# EAGLE library part USB (library usevolt)
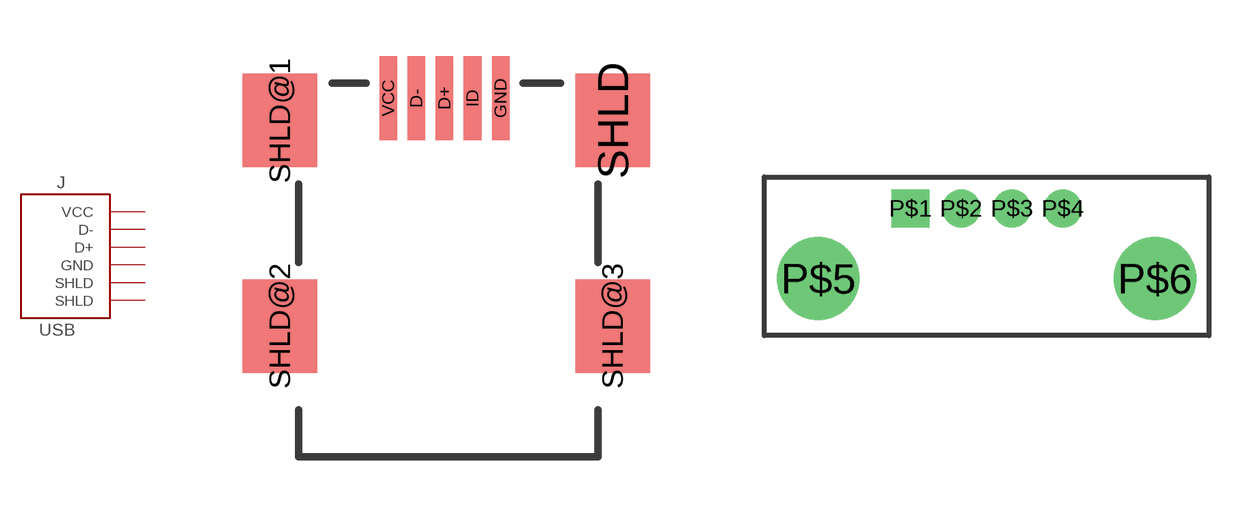
[diagram p12: symbol with the pads of USB_MINI_B; footprints USB_MINI_B, USB_A_RECEPTACLE_VERTICAL_MULTICOMP]

Designator prefix J

## USB_B_RECEPTACLE_SMD  [USB_MINI_B]
D+  D+
D-  D-
GND  GND
SHLD  SHLD
SHLD@1  SHLD
VCC  VCC

## USB_A_RECEPTACLE_TH_VERT  [USB_A_RECEPTACLE_VERTICAL_MULTICOMP]
P$1  VCC
P$2  D-
P$3  D+
P$4  GND
P$5  SHLD
P$6  SHLD

## Footprint USB_MINI_B (pad centres in mm)
smd 0.47 x 2.25: D+ 4.4,0.6; D- 3.649,0.6; GND 5.902,0.6; ID 5.151,0.6; VCC 2.898,0.6
smd 2 x 2.5: SHLD 8.9,0; SHLD@1 0,0; SHLD@2 0,-5.5; SHLD@3 8.9,-5.5

## Footprint USB_A_RECEPTACLE_VERTICAL_MULTICOMP (pad centres in mm)
drill 1.016 square: P$1 -3.048,0
drill 1.016: P$2 -1.016,0; P$3 1.016,0; P$4 3.048,0
drill 2.286: P$5 -6.731,-2.794; P$6 6.731,-2.794